# EAGLE library part NE555DR (library NE555)
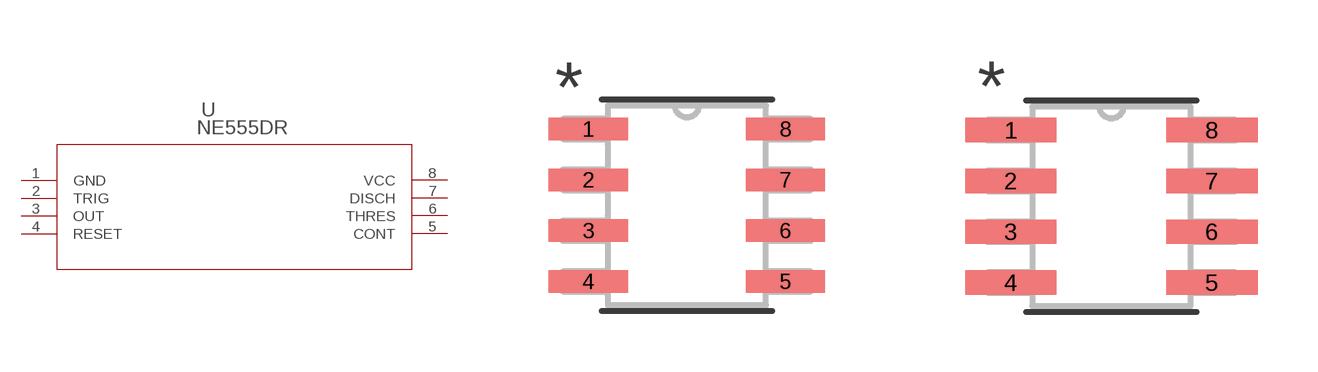
[diagram p0: symbol with the pads of D8; footprints D8, D8-M]

Designator prefix U

## NE555DR (MANUFACTURER_PART_NUMBER: NE555DR; VENDOR: Vendor)  [D8]
1  GND  pwr
2  TRIG  in
3  OUT  out
4  RESET  in
5  CONT  pas
6  THRES  in
7  DISCH  pas
8  VCC  pwr

## NE555DRD8-M (MANUFACTURER_PART_NUMBER: NE555DR; VENDOR: Vendor)  [D8-M]
Pads as for D8

## NE555DRD8-L (MANUFACTURER_PART_NUMBER: NE555DR; VENDOR: Vendor)  [D8-L]
Pads as for D8

## Footprint D8 (pad centres in mm)
smd 1.981 x 0.559: 1 -2.464,1.905; 2 -2.464,0.635; 3 -2.464,-0.635; 4 -2.464,-1.905; 5 2.464,-1.905; 6 2.464,-0.635; 7 2.464,0.635; 8 2.464,1.905

## Footprint D8-M (pad centres in mm)
smd 2.286 x 0.61: 1 -2.515,1.905; 2 -2.515,0.635; 3 -2.515,-0.635; 4 -2.515,-1.905; 5 2.515,-1.905; 6 2.515,-0.635; 7 2.515,0.635; 8 2.515,1.905

## Footprint D8-L (pad centres in mm)
smd 1.676 x 0.508: 1 -2.413,1.905; 2 -2.413,0.635; 3 -2.413,-0.635; 4 -2.413,-1.905; 5 2.413,-1.905; 6 2.413,-0.635; 7 2.413,0.635; 8 2.413,1.905